# Altium footprint library Terminal Block_5.08mm.PcbLib: 1 footprints
Each footprint in its own frame and in the unit in brackets; x right, y up, seen from the top. Pads: shape width x height; smd on the part's side, far side on the other; paste and mask are expansions set on the pad; w line width, h text height; cw(c..) or ccw(c..) is an arc to the next point about the centre after c.
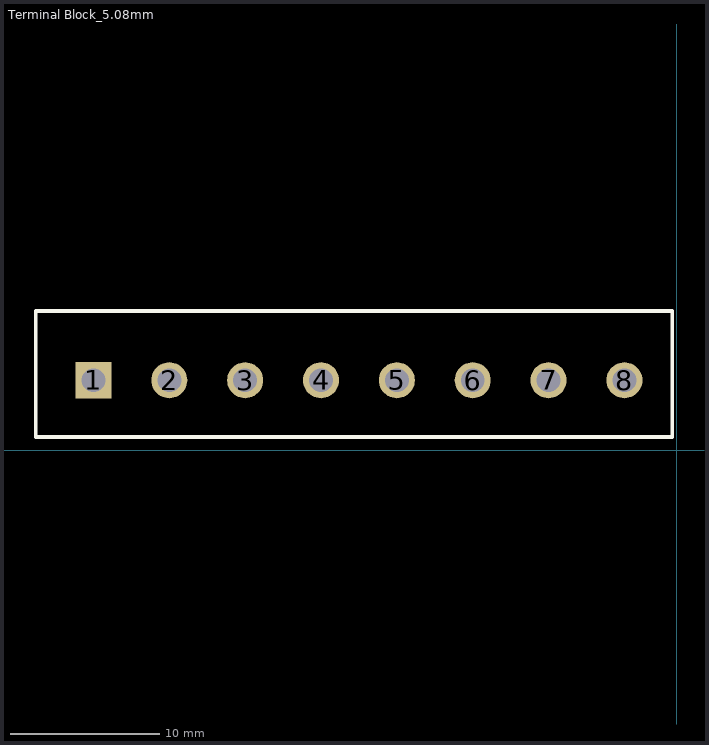
[diagram p0: the footprint, top view; thin cyan lines are the x and y axes]

## Terminal Block_5.08mm [mil] "Terminal Block"
pads (8):
  rect 95x95 hole 63: 1(-1538,184)
  round 95 hole 63: 2(-1338,184) 3(-1138,184) 4(-938,184) 5(-738,184) 6(-538,184) 7(-338,184) 8(-138,184)
Top Overlay:
  lines w10: -1690,34 -12,34 -12,367 -1690,367 -1690,34
3D body: height 500, standoff -130.41, extent -1690,32.68 -11.26,367.32